# EAGLE library part DS09E (library switch3)
DIL/CODE SWITCH
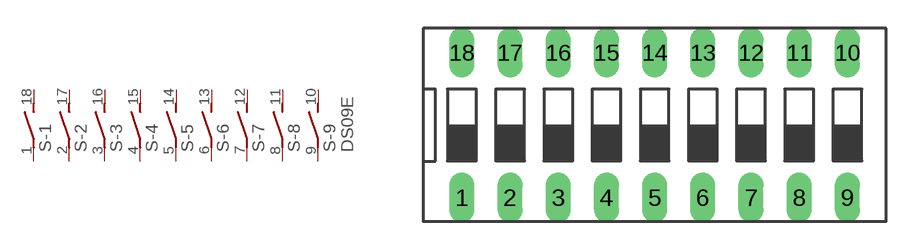
[diagram p15: symbol with the pads of DS-09; footprint DS-09]

Designator prefix S; gates -1=S -2=S -3=S -4=S -5=S -6=S -7=S -8=S -9=S+V

## DS09E (MPN: MCDS09; OC_FARNELL: 1255227; OC_NEWARK: 26M1107)  [DS-09]
1  -1:1  pas
2  -2:1  pas
3  -3:1  pas
4  -4:1  pas
5  -5:1  pas
6  -6:1  pas
7  -7:1  pas
8  -8:1  pas
9  -9:1  pas
10  -9:2  pas
11  -8:2  pas
12  -7:2  pas
13  -6:2  pas
14  -5:2  pas
15  -4:2  pas
16  -3:2  pas
17  -2:2  pas
18  -1:2  pas

## Footprint DS-09 (pad centres in mm)
DIL/CODE SWITCH Mors distributor Buerklin, 17G564
drill 0.813 long: 1 -10.16,-3.81; 2 -7.62,-3.81; 3 -5.08,-3.81; 4 -2.54,-3.81; 5 0,-3.81; 6 2.54,-3.81; 7 5.08,-3.81; 8 7.62,-3.81; 9 10.16,-3.81; 10 10.16,3.81; 11 7.62,3.81; 12 5.08,3.81; 13 2.54,3.81; 14 0,3.81; 15 -2.54,3.81; 16 -5.08,3.81; 17 -7.62,3.81; 18 -10.16,3.81